# Altium schematic symbol library SCH - ARM CORTEX - STM STM32G081EBYx.SchLib: 1 symbol
Pins are listed as number, name and electrical type; pins without a type are passive.

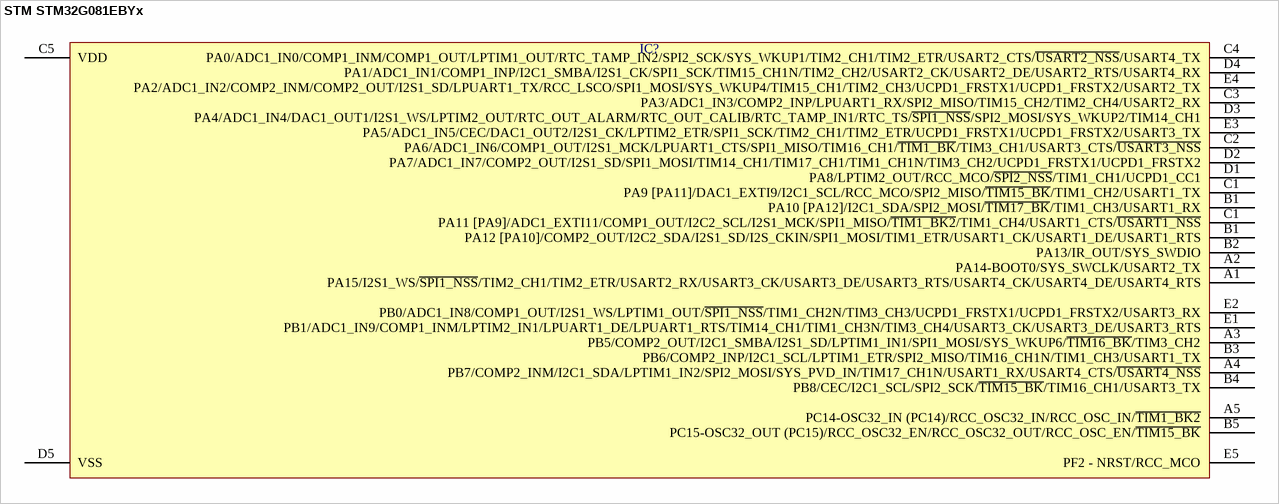
[diagram p0: symbol STM STM32G081EBYx]

## STM STM32G081EBYx
designator IC?  (value not drawn)
pins: A1 PA15/I2S1_WS/~{SPI1_NSS}/TIM2_CH1/TIM2_ETR/USART2_RX/USART3_CK/USART3_DE/USART3_RTS/USART4_CK/USART4_DE/USART4_RTS, A2 PA14-BOOT0/SYS_SWCLK/USART2_TX, A3 PB5/COMP2_OUT/I2C1_SMBA/I2S1_SD/LPTIM1_IN1/SPI1_MOSI/SYS_WKUP6/~{TIM16_BK}/TIM3_CH2, A4 PB7/COMP2_INM/I2C1_SDA/LPTIM1_IN2/SPI2_MOSI/SYS_PVD_IN/TIM17_CH1N/USART1_RX/USART4_CTS/~{USART4_NSS}, A5 PC14-OSC32_IN (PC14)/RCC_OSC32_IN/RCC_OSC_IN/~{TIM1_BK2}, B1 PA10 [PA12]/I2C1_SDA/SPI2_MOSI/~{TIM17_BK}/TIM1_CH3/USART1_RX, B1 PA12 [PA10]/COMP2_OUT/I2C2_SDA/I2S1_SD/I2S_CKIN/SPI1_MOSI/TIM1_ETR/USART1_CK/USART1_DE/USART1_RTS, B2 PA13/IR_OUT/SYS_SWDIO, B3 PB6/COMP2_INP/I2C1_SCL/LPTIM1_ETR/SPI2_MISO/TIM16_CH1N/TIM1_CH3/USART1_TX, B4 PB8/CEC/I2C1_SCL/SPI2_SCK/~{TIM15_BK}/TIM16_CH1/USART3_TX, B5 PC15-OSC32_OUT (PC15)/RCC_OSC32_EN/RCC_OSC32_OUT/RCC_OSC_EN/~{TIM15_BK}, C1 PA9 [PA11]/DAC1_EXTI9/I2C1_SCL/RCC_MCO/SPI2_MISO/~{TIM15_BK}/TIM1_CH2/USART1_TX, C1 PA11 [PA9]/ADC1_EXTI11/COMP1_OUT/I2C2_SCL/I2S1_MCK/SPI1_MISO/~{TIM1_BK2}/TIM1_CH4/USART1_CTS/~{USART1_NSS}, C2 PA6/ADC1_IN6/COMP1_OUT/I2S1_MCK/LPUART1_CTS/SPI1_MISO/TIM16_CH1/~{TIM1_BK}/TIM3_CH1/USART3_CTS/~{USART3_NSS}, C3 PA3/ADC1_IN3/COMP2_INP/LPUART1_RX/SPI2_MISO/TIM15_CH2/TIM2_CH4/USART2_RX, C4 PA0/ADC1_IN0/COMP1_INM/COMP1_OUT/LPTIM1_OUT/RTC_TAMP_IN2/SPI2_SCK/SYS_WKUP1/TIM2_CH1/TIM2_ETR/USART2_CTS/~{USART2_NSS}/USART4_TX, C5 VDD, D1 PA8/LPTIM2_OUT/RCC_MCO/~{SPI2_NSS}/TIM1_CH1/UCPD1_CC1, D2 PA7/ADC1_IN7/COMP2_OUT/I2S1_SD/SPI1_MOSI/TIM14_CH1/TIM17_CH1/TIM1_CH1N/TIM3_CH2/UCPD1_FRSTX1/UCPD1_FRSTX2, D3 PA4/ADC1_IN4/DAC1_OUT1/I2S1_WS/LPTIM2_OUT/RTC_OUT_ALARM/RTC_OUT_CALIB/RTC_TAMP_IN1/RTC_TS/~{SPI1_NSS}/SPI2_MOSI/SYS_WKUP2/TIM14_CH1, D4 PA1/ADC1_IN1/COMP1_INP/I2C1_SMBA/I2S1_CK/SPI1_SCK/TIM15_CH1N/TIM2_CH2/USART2_CK/USART2_DE/USART2_RTS/USART4_RX, D5 VSS, E1 PB1/ADC1_IN9/COMP1_INM/LPTIM2_IN1/LPUART1_DE/LPUART1_RTS/TIM14_CH1/TIM1_CH3N/TIM3_CH4/USART3_CK/USART3_DE/USART3_RTS, E2 PB0/ADC1_IN8/COMP1_OUT/I2S1_WS/LPTIM1_OUT/~{SPI1_NSS}/TIM1_CH2N/TIM3_CH3/UCPD1_FRSTX1/UCPD1_FRSTX2/USART3_RX, E3 PA5/ADC1_IN5/CEC/DAC1_OUT2/I2S1_CK/LPTIM2_ETR/SPI1_SCK/TIM2_CH1/TIM2_ETR/UCPD1_FRSTX1/UCPD1_FRSTX2/USART3_TX, E4 PA2/ADC1_IN2/COMP2_INM/COMP2_OUT/I2S1_SD/LPUART1_TX/RCC_LSCO/SPI1_MOSI/SYS_WKUP4/TIM15_CH1/TIM2_CH3/UCPD1_FRSTX1/UCPD1_FRSTX2/USART2_TX, E5 PF2 - NRST/RCC_MCO